# EAGLE library part FBT (library Cao ap)
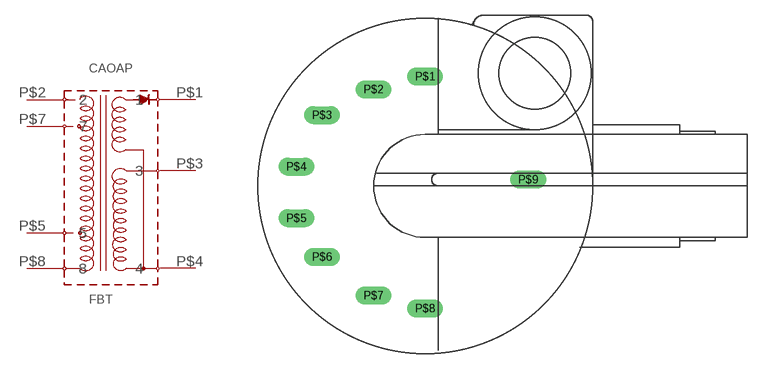
[diagram p0: symbol with the pads of FBT; footprint FBT]

Designator prefix CAOAP

## FBTF  [FBT]
P$1  1
P$2  2
P$3  3
P$4  4
P$5  5
P$7  7
P$8  8

## Footprint FBT (pad centres in mm)
drill 1 pad 1.778 long: P$1 1.27,10.16; P$2 -3.81,8.89; P$3 -8.89,6.35; P$4 -11.43,1.27; P$5 -11.43,-3.81; P$6 -8.89,-7.62; P$7 -3.81,-11.43; P$8 1.27,-12.7; P$9 11.43,0